# Altium schematic symbol library LP5907.Schlib: 1 symbol
Pins are listed as number, name and electrical type; pins without a type are passive.

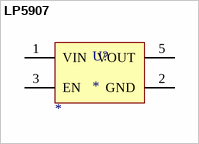
[diagram p0: symbol LP5907]

## LP5907
designator U?
Value: *
pins: 1 VIN, 2 GND, 3 EN, 5 VOUT